# EAGLE library part PCF8563P (library SmartHomePLC_Licenta)
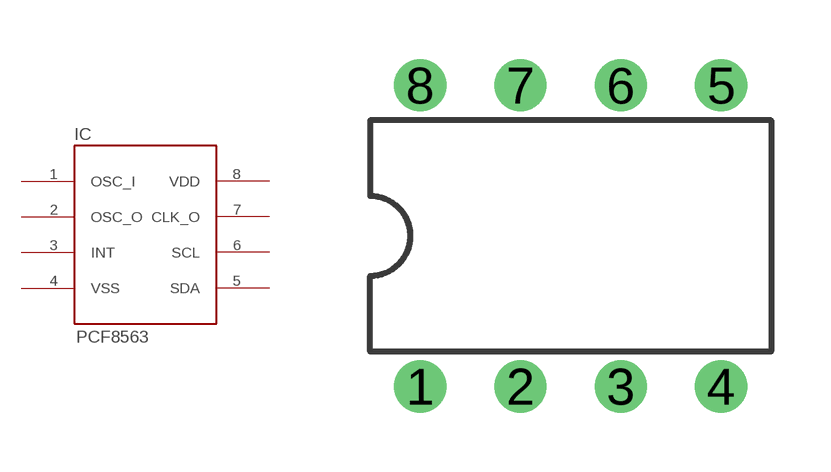
[diagram p3: symbol with the pads of DIL08; footprint DIL08]

Designator prefix IC

## PCF8563P (LIBRARY: SmartHomePLC; TYPE: IC)  [DIL08]
1  OSC_I
2  OSC_O
3  INT
4  VSS
5  SDA
6  SCL
7  CLK_O
8  VDD

## Footprint DIL08 (pad centres in mm)
Dual In Line Package
drill 0.813 pad 1.27: 1 -3.81,-3.81; 2 -1.27,-3.81; 3 1.27,-3.81; 4 3.81,-3.81; 5 3.81,3.81; 6 1.27,3.81; 7 -1.27,3.81; 8 -3.81,3.81